# EAGLE library part BQ76925_PW_20 (library TI)
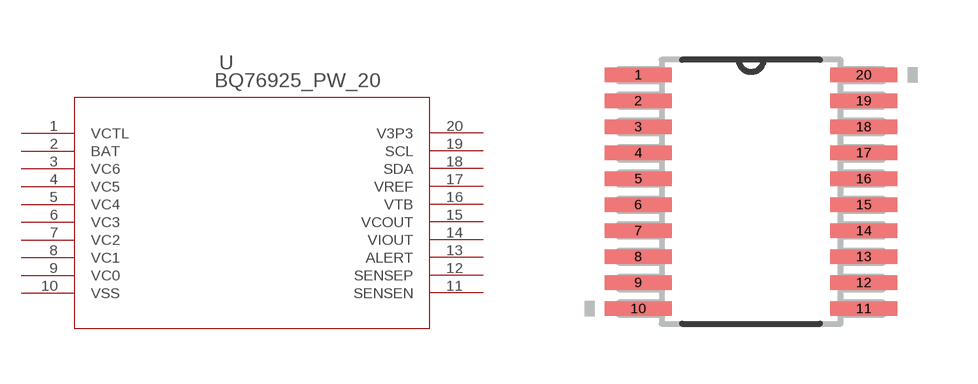
[diagram p0: symbol with the pads of PW20; footprint PW20]

Designator prefix U

## BQ76925_PW_20 (DATASHEETURL: http://www.ti.com/lit/gpn/BQ76925; DESCRIPTION: Analog Front End for 3 to 6 Series Lithium-Ion Cells; FAMILY_NAME: LITHIUM ION PROTECTION; GENERIC_PART_NUMBER: BQ76925; INDUSTRY_STD_PKG_TYPE: TSSOP; MANUFACTURER: Texas Instruments; MANUFACTURER_PART_NUMBER: bq76925_pw_20; PACKAGE_DESIGNATOR: PW; PIN_COUNT: 20; VENDOR: Texas Instruments)  [PW20]
1  VCTL  out
2  BAT  pwr
3  VC6  in
4  VC5  in
5  VC4  in
6  VC3  in
7  VC2  in
8  VC1  in
9  VC0  in
10  VSS  pwr
11  SENSEN  in
12  SENSEP  in
13  ALERT  out
14  VIOUT  out
15  VCOUT  out
16  VTB  out
17  VREF  out
18  SDA
19  SCL  in
20  V3P3  out

## Footprint PW20 (pad centres in mm)
smd 1.676 x 0.356: 1 -2.819,2.925; 2 -2.819,2.275; 3 -2.819,1.625; 4 -2.819,0.975; 5 -2.819,0.325; 6 -2.819,-0.325; 7 -2.819,-0.975; 8 -2.819,-1.625; 9 -2.819,-2.275; 10 -2.819,-2.925; 11 2.819,-2.925; 12 2.819,-2.275; 13 2.819,-1.625; 14 2.819,-0.975; 15 2.819,-0.325; 16 2.819,0.325; 17 2.819,0.975; 18 2.819,1.625; 19 2.819,2.275; 20 2.819,2.925